# Altium schematic symbol library Data_logger.SchLib: 64 symbols
Pins are listed as number, name and electrical type; pins without a type are passive.

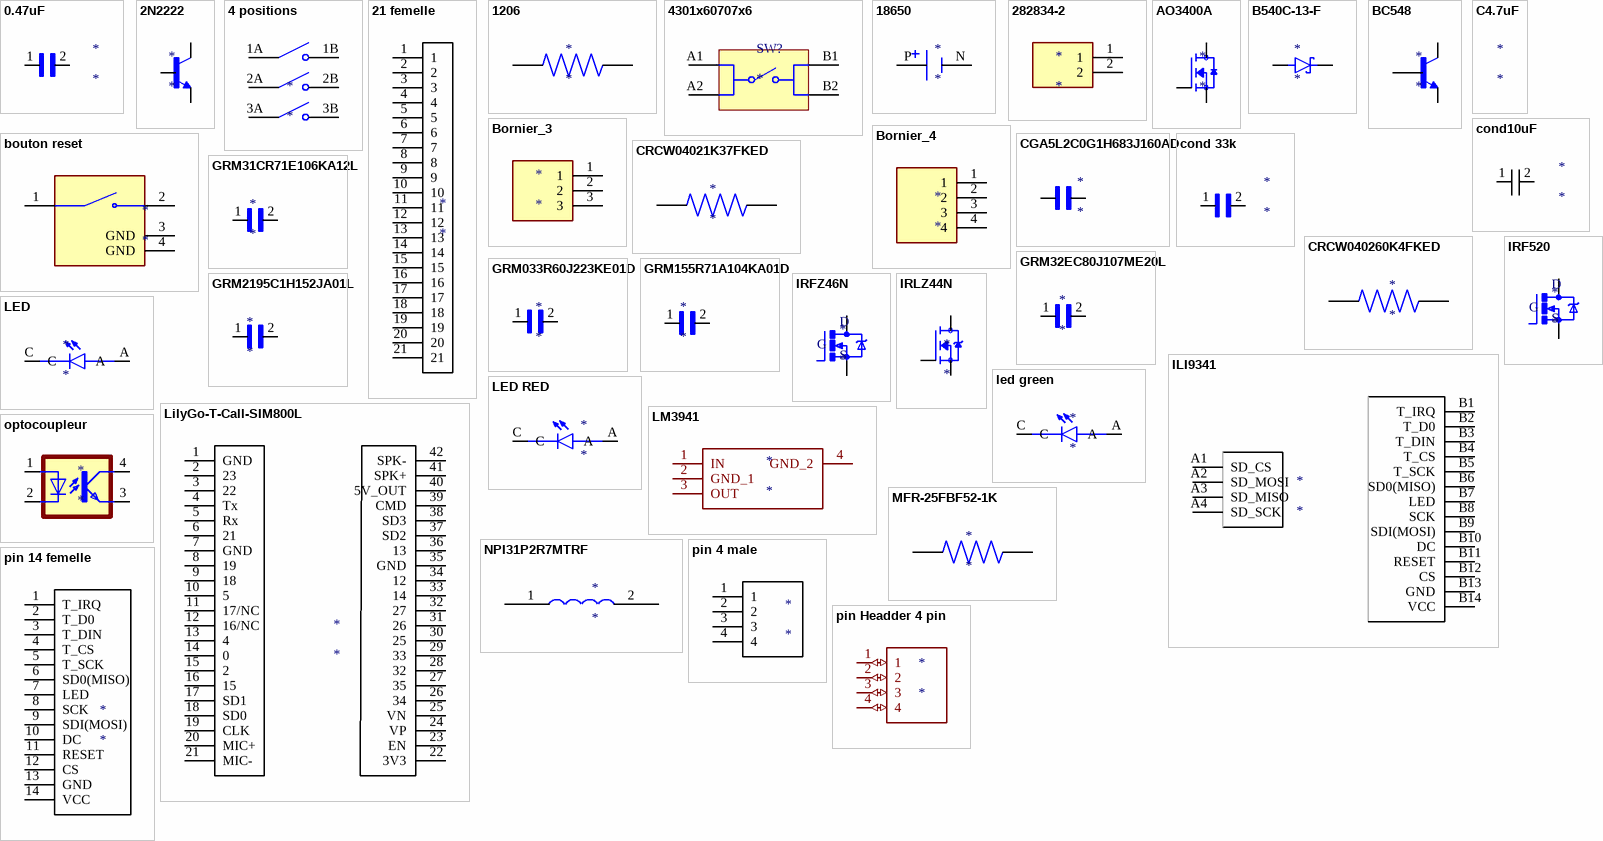
[diagram p0: symbols 0.47uF to pin Headder 4 pin]

## 0.47uF
designator *
footprint 0.47uF
pins: 1, 2

## 2N2222
designator *
footprint 2N2222
pins: 1 E, 2 B, 3 C

## 4 positions
designator *
footprint 4 pos
pins: 1A COM1, 1B NO1, 2A COM2, 2B NO2, 3A COM3, 3B NO3

## 21 femelle
designator *
footprint pin 21 femelle
pins: 1, 2, 3, 4, 5, 6, 7, 8, 9, 10, 11, 12, 13, 14, 15, 16, 17, 18, 19, 20, 21

## 1206
designator *
footprint 1206
pins: 1, 2

## 4301x60707x6
designator SW?
footprint 4301x60707x6
pins: A1, A2, B1, B2

## 18650
designator *
footprint 18650
pins: N NEG, P POS

## 282834-2
designator *
footprint 282834-2
pins: 1, 2

## AO3400A
designator *
footprint AO3400A
pins: 1 G, 2 S, 3 D

## B540C-13-F
designator *
footprint B540C-13-F
pins: A, C K

## BC548
designator *
pins: 1 C, 2 B, 3 E

## Bornier_3
designator *
footprint Bornier_3
pins: 1, 2, 3

## Bornier_4
designator *
footprint Bornier_4
pins: 1, 2, 3, 4

## bouton reset
designator *
footprint SW_TS11-674-120-BK-260-RA-D
pins: 1 COM, 2 NO, 3 GND (power), 4 GND (power)

## C4.7uF
designator *

## CGA5L2C0G1H683J160AD
designator *
footprint CGA5L2C0G1H683J160AD
pins: 1, 2

## cond10uF
designator *
footprint cond10uF
pins: 1, 2

## cond 33k
designator *
footprint 33k
pins: 1, 2

## CRCW04021K37FKED
designator *
footprint CRCW04021K37FKED
pins: 1, 2

## CRCW040260K4FKED
designator *
footprint CRCW040260K4FKED
pins: 1, 2

## GRM31CR71E106KA12L
designator *
footprint GRM31CR71E106KA12L
pins: 1, 2

## GRM32EC80J107ME20L
designator *
footprint GRM32EC80J107ME20L
pins: 1, 2

## GRM033R60J223KE01D
designator *
footprint GRM033R60J223KE01D
pins: 1, 2

## GRM155R71A104KA01D
designator *
footprint GRM155R71A104KA01D
pins: 1, 2

## GRM2195C1H152JA01L
designator *
footprint GRM2195C1H152JA01L
pins: 1, 2

## ILI9341
designator *
footprint ILI9341
pins: A1 SD_CS, A2 SD_MOSI, A3 SD_MISO, A4 SD_SCK, B1 T_IRQ, B2 T_D0, B3 T_DIN, B4 T_CS, B5 T_SCK, B6 SD0(MISO), B7 LED, B8 SCK, B9 SDI(MOSI), B10 DC, B11 RESET, B12 CS, B13 GND, B14 VCC

## IRF520
designator *
footprint IRF520
pins: D, S
text: G

## IRFZ46N
designator *
footprint IRFZ46N
pins: D, G, S

## IRLZ44N
designator *
pins: 1 G, 2 D, 3 S

## LED
designator *
pins: A, C

## led green
designator *
footprint led green
pins: A, C

## LED RED
designator *
pins: A, C

## LilyGo-T-Call-SIM800L
designator *
ESP32 Wireless Module GPRS Antenna SIM Card SIM800L Module
footprint LilyGo-T-Call-SIM800L
pins: 1 GND, 2 23, 3 22, 4 Tx, 5 Rx, 6 21, 7 GND, 8 19, 9 18, 10 5, 11 17/NC, 12 16/NC, 13 4, 14 0, 15 2, 16 15, 17 SD1, 18 SD0, 19 CLK, 20 MIC+, 21 MIC-, 22 3V3, 23 EN, 24 VP, 25 VN, 26 34, 27 35, 28 32, 29 33, 30 25, 31 26, 32 27, 33 14, 34 12, 35 GND, 36 13, 37 SD2, 38 SD3, 39 CMD, 40 5V_OUT, 41 SPK+, 42 SPK-

## LM3941
designator *
footprint LM9341
pins: 1 IN, 2 GND_1, 3 OUT, 4 GND_2

## MFR-25FBF52-1K
designator *
footprint MFR-25FBF52-1K
pins: 1, 2

## NPI31P2R7MTRF
designator *
footprint NPI31P2R7MTRF
pins: 1, 2

## optocoupleur
designator *
pins: 1 A, 2 C, 3 EMIT, 4 COL

## pin 4 male
designator *
footprint pin 4 male
pins: 1, 2, 3, 4

## pin 14 femelle
designator *
footprint pin 14 demelle
pins: 1 T_IRQ, 2 T_D0, 3 T_DIN, 4 T_CS, 5 T_SCK, 6 SD0(MISO), 7 LED, 8 SCK, 9 SDI(MOSI), 10 DC, 11 RESET, 12 CS, 13 GND, 14 VCC

## pin Headder 4 pin
designator *
footprint pinHeader 4
pins: 1 (io), 2 (io), 3 (io), 4 (io)

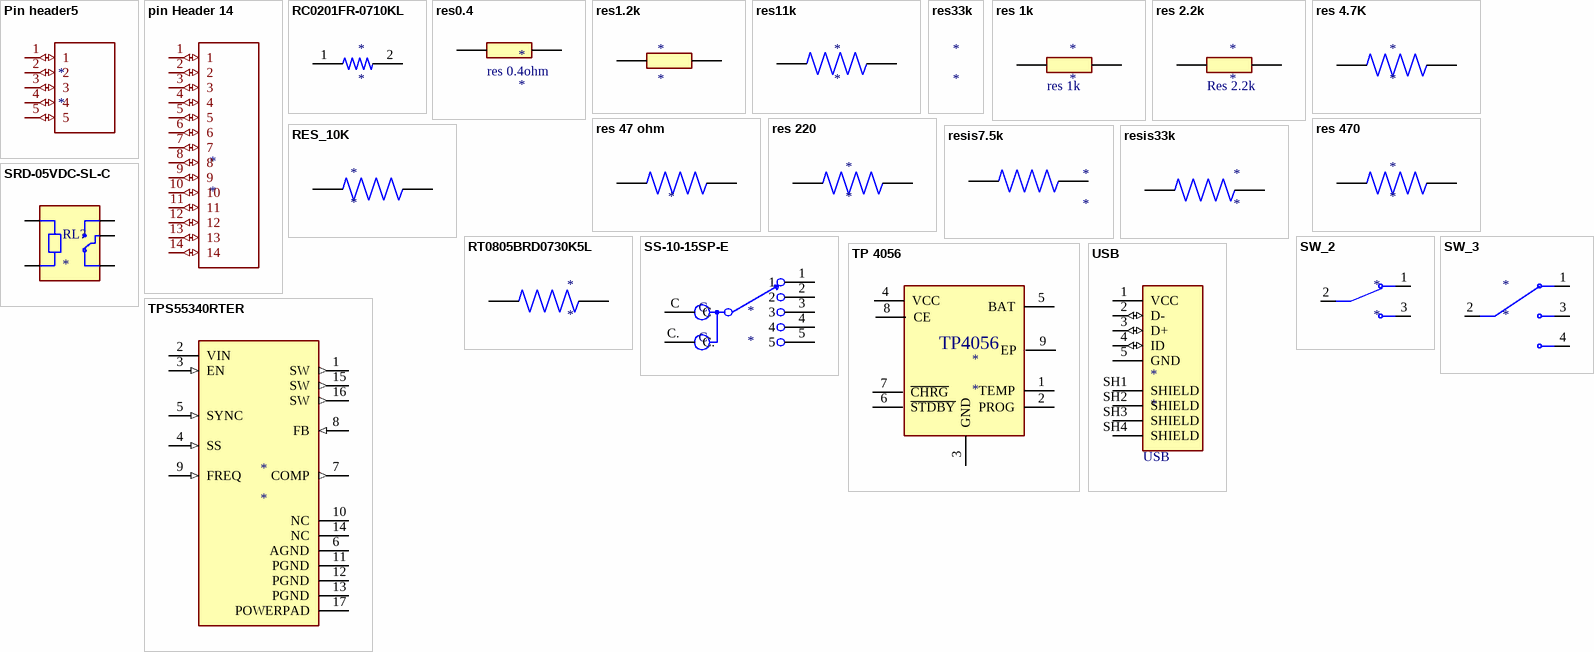
[diagram p1: symbols Pin header5 to USB]

## Pin header5
designator *
footprint PinHeader5
pins: 1 (io), 2 (io), 3 (io), 4 (io), 5 (io)

## pin Header 14
designator *
footprint pinHeader14
pins: 1 (io), 2 (io), 3 (io), 4 (io), 5 (io), 6 (io), 7 (io), 8 (io), 9 (io), 10 (io), 11 (io), 12 (io), 13 (io), 14 (io)

## RC0201FR-0710KL
designator *
footprint RC0201FR-0710KL
pins: 1, 2

## res0.4
designator *
footprint res0.4
pins: 1, 2
text: res 0.4ohm

## res1.2k
designator *
footprint res1.2k
pins: 1, 2

## res11k
designator *
footprint 11k
pins: 1, 2

## res33k
designator *

## res 1k
designator *
footprint res 1k
pins: 1, 2

## res 2.2k
designator *
pins: 1, 2
text: Res 2.2k

## res 4.7K
designator *
footprint res 4,7k
pins: 1, 2

## res 47 ohm
designator ?
footprint RESAD1590W60L630D240
pins: 1, 2

## res 220
designator *
footprint res 220
pins: 1, 2

## res 470
designator *
pins: 1, 2

## RES_10K
designator *
footprint RES_10k
pins: 1, 2

## resis7.5k
designator *
footprint resis7.5k
pins: 1, 2

## resis33k
designator *
footprint resis30k
pins: 1, 2

## RT0805BRD0730K5L
designator *
footprint RT0805BRD0730K5L
pins: 1, 2

## SRD-05VDC-SL-C
designator RL?
5V Trigger Relay Module For Arduino And Raspberry Pi 5V Trigger Relay Module For Arduino And Raspberry Pi; Parameter 1: *
footprint SRD-05VDC-SL-C
pins: A1, A2, COM, NC, NO

## SS-10-15SP-E
designator *
footprint SS-10-15SP-E
pins: 1, 2, 3, 4, 5, C, C.

## SW_2
designator *
pins: 1, 2, 3

## SW_3
designator *
pins: 1, 2, 3, 4

## TP 4056
designator *
footprint TP4056
pins: 1 TEMP, 2 PROG, 3 GND (power), 4 VCC (power), 5 BAT, 6 ~{STDBY}, 7 ~{CHRG}, 8 CE, 9 EP
text: TP4056

## TPS55340RTER
designator *
footprint TPS55340RTER
pins: 1 SW (out), 2 VIN (power), 3 EN (in), 4 SS (in), 5 SYNC (in), 6 AGND (power), 7 COMP (out), 8 FB (in), 9 FREQ (in), 10 NC (power), 11 PGND (power), 12 PGND (power), 13 PGND (power), 14 NC (power), 15 SW (out), 16 SW (out), 17 POWERPAD (power)

## USB
designator *
footprint USB
pins: 1 VCC (power), 2 D- (io), 3 D+ (io), 4 ID (io), 5 GND (power), SH1 SHIELD, SH2 SHIELD, SH3 SHIELD, SH4 SHIELD